# Altium integrated library PG_Libs.IntLib: 37 symbols
Pins are listed as number, name and electrical type; pins without a type are passive.

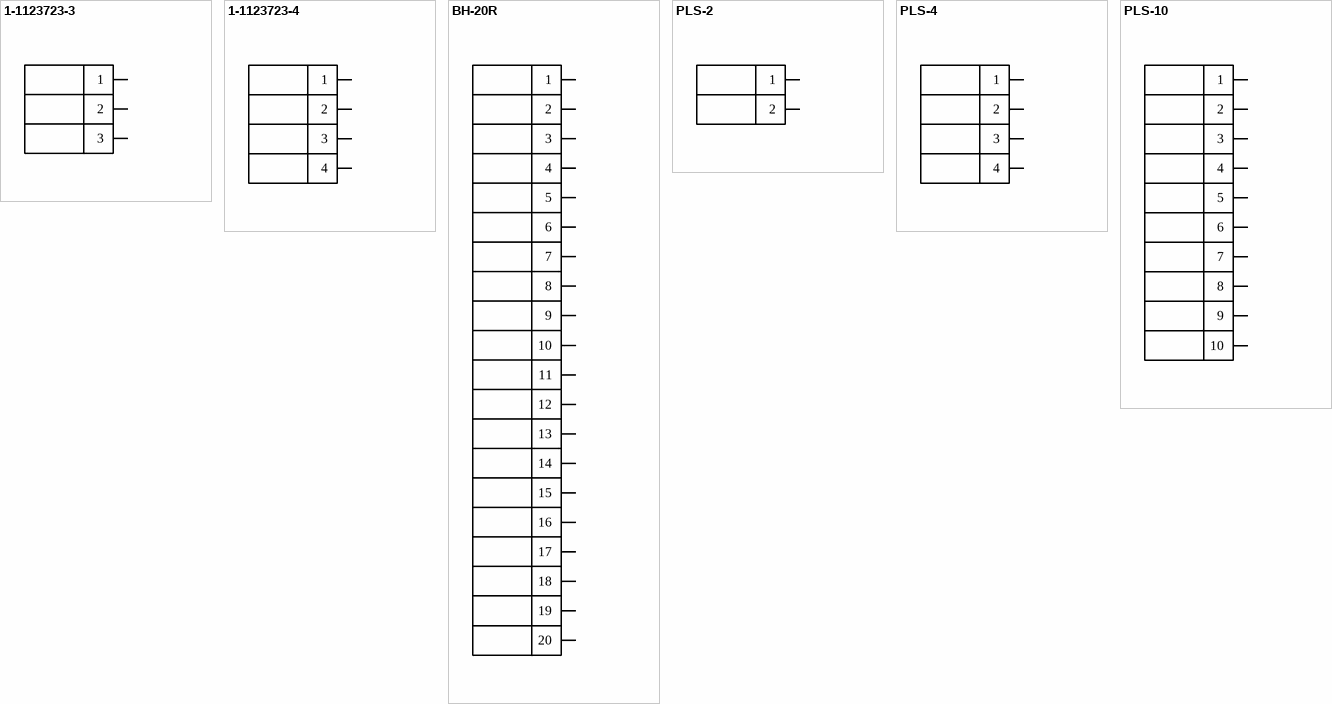
[diagram p0: symbols 1-1123723-3 to PLS-10]

## 1-1123723-3
designator X, comment 0
1-1123723-3 (B3P-VH), Разъем 3 pin шаг 3.96мм
footprint 1-1123723-3
pins: 1, 2, 3

## 1-1123723-4
designator X, comment 0
1-1123723-4 (B4P-VH), Разъем 4 pin шаг 3.96мм
footprint 1-1123723-4
pins: 1, 2, 3, 4

## BH-20R
designator X, comment 0
BH-20R (DS1013-20R) (IDC-20MR), Вилка на плату угловая 20pin 2.54мм
footprint PLS-20 (X)
pins: 1, 2, 3, 4, 5, 6, 7, 8, 9, 10, 11, 12, 13, 14, 15, 16, 17, 18, 19, 20

## PLS-2
designator X, comment 0
PLS-2 (DS-1021-1x2), Вилка штыревая 2.54мм 1x2pin прямая тип1
footprint PLS-2 (X)
pins: 1, 2

## PLS-4
designator X, comment 0
PLS-4 (DS-1021-1x4), Вилка штыревая 2.54мм 1x4pin прямая тип1
footprint PLS-4 (X)
pins: 1, 2, 3, 4

## PLS-10
designator X, comment 0
PLS-10(DS-1021-1x10), Вилка штыревая 2.54мм 1x10pin прямая тип1
footprint PLS-10 (X)
pins: 1, 2, 3, 4, 5, 6, 7, 8, 9, 10


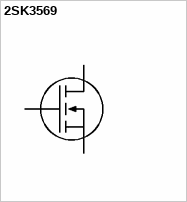
[diagram p1: symbol 2SK3569]

## 2SK3569
designator VT
2SK3569, Транзистор, TT-MOSVI, N-канал, 600В, 10А
footprint TO-220
pins: 1 Gate, 2 Drain, 3 Source


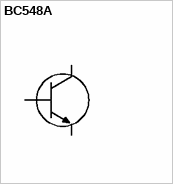
[diagram p2: symbol BC548A]

## BC548A
designator VT
BC548A, Транзистор NPN 30В 0.1А
footprint TO-92 (VT)
pins: B, E, K


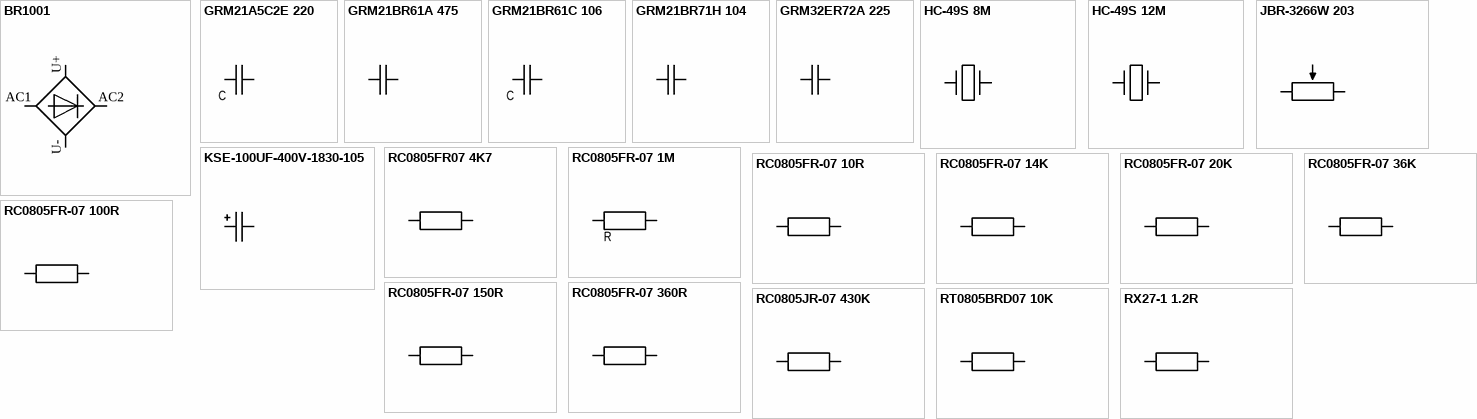
[diagram p3: symbols BR1001 to RX27-1 1.2R]

## BR1001
designator VD, comment 0
BR1001, Диодный мост однофазный 10А 100В [BR-10.] (=KBPC1001, BR101)
footprint BR-10
pins: AC1, AC2, U+, U-

## GRM21A5C2E 220
designator C, comment 22пФ
22пФ C0G 250B 5% 0805, GRM21A5C2E220J
footprint C 0805 (R 0805)
pins: 1, 2

## GRM21BR61A 475
designator C, comment 4.7мкф
GRM21BR61A475KA73L, (чип 0805 X5R 4.7uF +10% 10V), Керамический ЧИП-конденсатор 0805 X5R 4.7мкФ +10%
footprint C 0805 (C)
pins: 1, 2

## GRM21BR61C 106
designator C, comment 10мкФ
10 мкФ X5R 16В 10% 0805, GRM21BR61C106K
footprint C 0805 (R 0805)
pins: 1, 2

## GRM21BR71H 104
designator C, comment 0.1мкф
0.1 мкФ X7R 50В 10% 0805, GRM21BR71H104KA01L
footprint C 0805 (R 0805)
pins: 1, 2

## GRM32ER72A 225
designator C, comment 2.2мкф
2.2 мкФ X7R 10% 100В 1210, GRM32ER72A225K
footprint C 1210 (C)
pins: 1, 2

## HC-49S 8M
designator BQ, comment 8.000Мгц
8.000Мгц, HC-49S, Кварцевый резонатор
footprint HC-49S (BQ)
pins: 1, 2

## HC-49S 12M
designator BQ, comment 12.000Мгц
12.000Мгц, HC-49S, Кварцевый резонатор
footprint HC-49S (BQ)
pins: 1, 2

## JBR-3266W 203
designator R, comment 20к
JBR-3266W-203-R, 20 кОм, Резистор подстроечный
footprint JBR-3266W
pins: 1, 2, 3

## KSE-100UF-400V-1830-105
designator С, comment 100мкф
Конденсатор электролитический KSE-100UF-400V-1830-105
footprint KSE-100
pins: 1, 2

## RC0805FR07 4K7
designator R, comment 4.7к
0.125Вт 0805 4.7 кОм, 1%, RC0805FR-074K7L
footprint R 0805
pins: 1, 2

## RC0805FR-07 1M
designator R, comment 1М
0.125Вт 0805 1 МОм, 1%, RC0805FR-071ML
footprint R 0805
pins: 1, 2

## RC0805FR-07 10R
designator R, comment 10
0.125Вт 0805 10 Ом, 1%, RC0805FR-0710RL
footprint R 0805
pins: 1, 2

## RC0805FR-07 14K
designator R, comment 14к
14 кОм 0805 1% RC0805FR-0714K
footprint R 0805
pins: 1, 2

## RC0805FR-07 20K
designator R, comment 20к
0.125Вт 0805 20 кОм, 1%, RC0805FR-0720KL
footprint R 0805
pins: 1, 2

## RC0805FR-07 36K
designator R, comment 36к
RC0805FR-0736KL, (чип 0805 36.0К 1%), Толстопленочный ЧИП-резистор 0805 36кОм
footprint R 0805
pins: 1, 2

## RC0805FR-07 100R
designator R, comment 100
0.125Вт 0805 100 Ом, 1%, RC0805FR-07100RL
footprint R 0805
pins: 1, 2

## RC0805FR-07 150R
designator R, comment 150
RC0805FR-07150RL, (чип 0805 150 1%), Толстопленочный ЧИП-резистор 0805 150Ом +1% 0.125Вт
footprint R 0805
pins: 1, 2

## RC0805FR-07 360R
designator R, comment 360
RC0805FR-07360RL, (чип 0805 360 1%), Толстопленочный ЧИП-резистор 0805 360Ом +1% 0.125Вт
footprint R 0805
pins: 1, 2

## RC0805JR-07 430K
designator R, comment 430к
0.125Вт 0805 430 кОм, 5%, RC0805JR-07430KL
footprint R 0805
pins: 1, 2

## RT0805BRD07 10K
designator R, comment 10к
0.125Вт 0805 10 кОм, 0п.1%, RT0805BRD0710KL
footprint R 0805
pins: 1, 2

## RX27-1 1.2R
designator R, comment 1.2
RX27-1 1.2 Ом 5W 5% / SQP5, Мощный постоянный резистор , керамо-цементный корпус
footprint RX27-1
pins: 1, 2


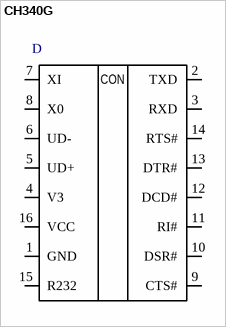
[diagram p4: symbol CH340G]

## CH340G
designator D  (value not drawn)
CH340G, Преобразователь интерфейса USB в UART [SOP-16]
footprint SO16 (D)
pins: 1 GND, 2 TXD, 3 RXD, 4 V3, 5 UD+, 6 UD-, 7 XI, 8 X0, 9 CTS#, 10 DSR#, 11 RI#, 12 DCD#, 13 DTR#, 14 RTS#, 15 R232, 16 VCC
text: CON


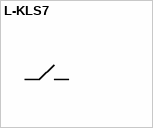
[diagram p5: symbol L-KLS7]

## L-KLS7
designator S, comment 0  (value not drawn)
L-KLS7-TS1202-9.0-180
footprint PLS-2 (X)
pins: 1, 2


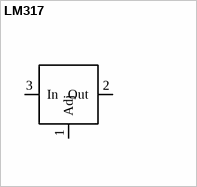
[diagram p6: symbol LM317]

## LM317
designator D, comment 0
LM317, Стабилизатор напряжения, линейный,регулируемый, 1,5А, TO220
footprint TO-220
pins: 1 Adj, 2 Out, 3 In


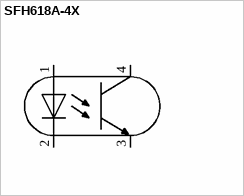
[diagram p7: symbol SFH618A-4X]

## SFH618A-4X
designator D  (value not drawn)
SFH618A-4X, Оптопара транзисторная [DIP-4]
footprint DIP4
pins: 1 A, 2 C, 3 E, 4 C


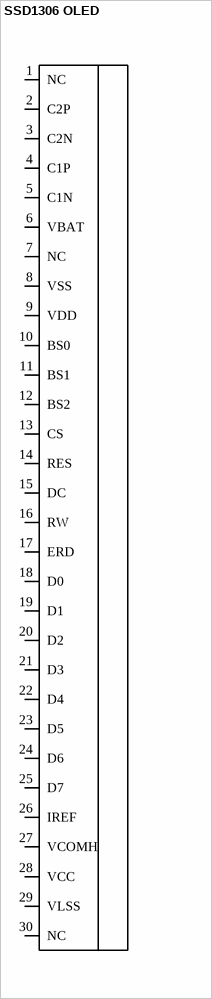
[diagram p8: symbol SSD1306 OLED]

## SSD1306 OLED
designator D, comment 0
SSD1306 OLED
footprint 50A-40BX (X)
pins: 1 NC, 2 C2P, 3 C2N, 4 C1P, 5 C1N, 6 VBAT, 7 NC, 8 VSS, 9 VDD, 10 BS0, 11 BS1, 12 BS2, 13 CS, 14 RES, 15 DC, 16 RW, 17 ERD, 18 D0, 19 D1, 20 D2, 21 D3, 22 D4, 23 D5, 24 D6, 25 D7, 26 IREF, 27 VCOMH, 28 VCC, 29 VLSS, 30 NC


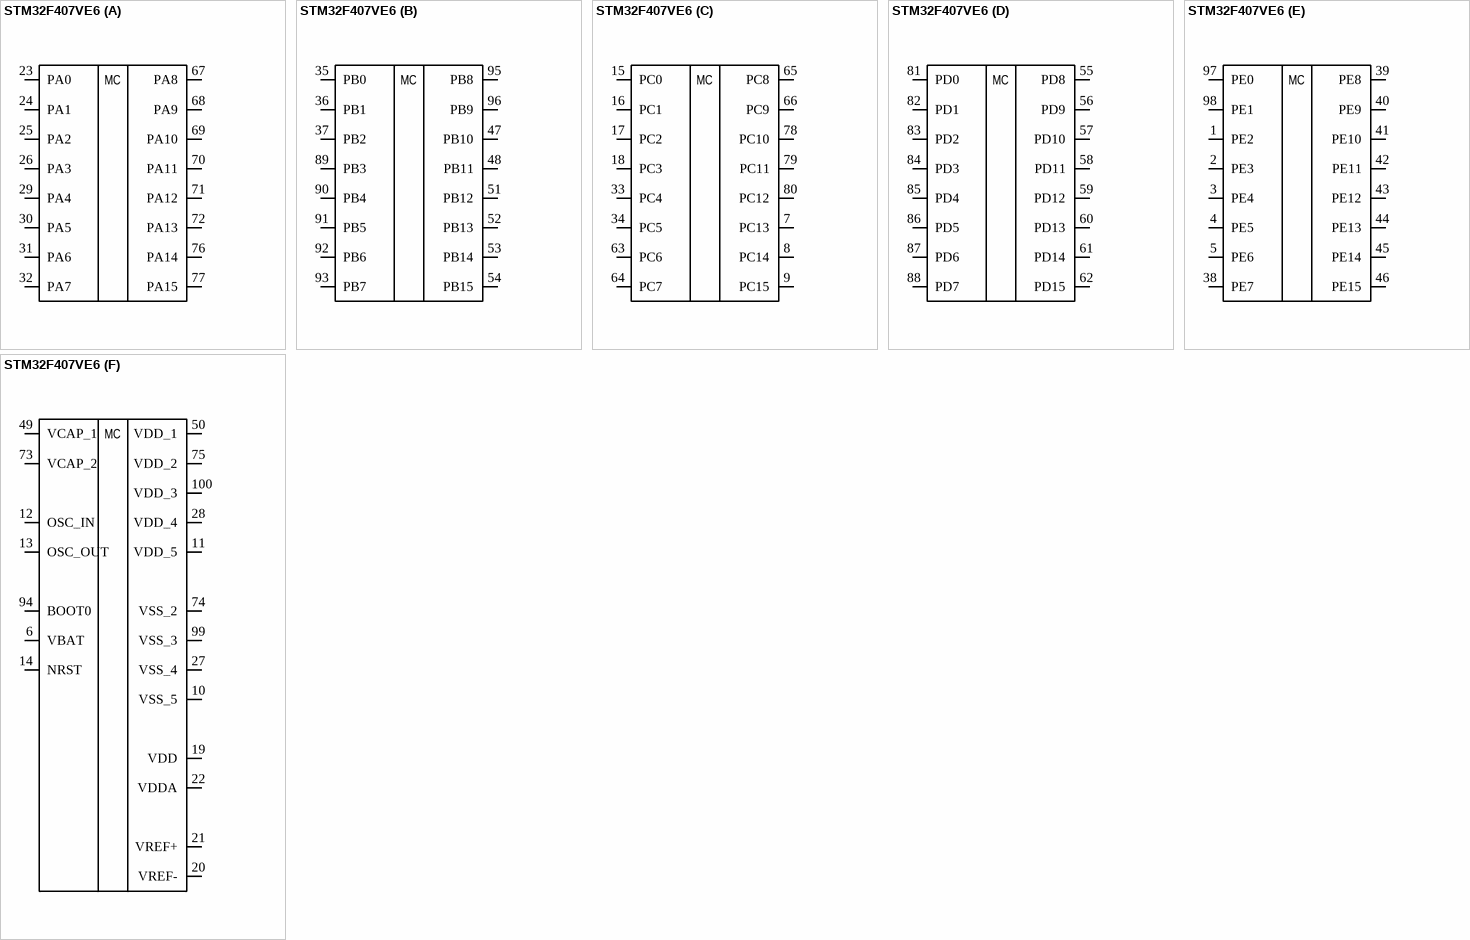
[diagram p9: symbol STM32F407VE6]

## STM32F407VE6
designator D, comment 0
STM32F407VE6, Cortex-M3, 512k
footprint LQFP - 100
part A pins: 23 PA0, 24 PA1, 25 PA2, 26 PA3, 29 PA4, 30 PA5, 31 PA6, 32 PA7, 67 PA8, 68 PA9, 69 PA10, 70 PA11, 71 PA12, 72 PA13, 76 PA14, 77 PA15
part B pins: 35 PB0, 36 PB1, 37 PB2, 47 PB10, 48 PB11, 51 PB12, 52 PB13, 53 PB14, 54 PB15, 89 PB3, 90 PB4, 91 PB5, 92 PB6, 93 PB7, 95 PB8, 96 PB9
part C pins: 7 PC13, 8 PC14, 9 PC15, 15 PC0, 16 PC1, 17 PC2, 18 PC3, 33 PC4, 34 PC5, 63 PC6, 64 PC7, 65 PC8, 66 PC9, 78 PC10, 79 PC11, 80 PC12
part D pins: 55 PD8, 56 PD9, 57 PD10, 58 PD11, 59 PD12, 60 PD13, 61 PD14, 62 PD15, 81 PD0, 82 PD1, 83 PD2, 84 PD3, 85 PD4, 86 PD5, 87 PD6, 88 PD7
part E pins: 1 PE2, 2 PE3, 3 PE4, 4 PE5, 5 PE6, 38 PE7, 39 PE8, 40 PE9, 41 PE10, 42 PE11, 43 PE12, 44 PE13, 45 PE14, 46 PE15, 97 PE0, 98 PE1
part F pins: 6 VBAT, 10 VSS_5, 11 VDD_5, 12 OSC_IN, 13 OSC_OUT, 14 NRST, 19 VDD, 20 VREF-, 21 VREF+, 22 VDDA, 27 VSS_4, 28 VDD_4, 49 VCAP_1, 50 VDD_1, 73 VCAP_2, 74 VSS_2, 75 VDD_2, 94 BOOT0, 99 VSS_3, 100 VDD_3
part A text: MC
part B text: MC
part C text: MC
part D text: MC
part E text: MC
part F text: MC


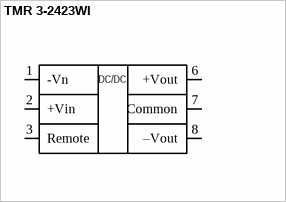
[diagram p10: symbol TMR 3-2423WI]

## TMR 3-2423WI
designator D  (value not drawn)
footprint TMR 3WI Series (D)
pins: 1 -Vn, 2 +Vin, 3 Remote, 6 +Vout, 7 Common, 8  –Vout
text: DC/DC